# EAGLE library part MAX4233 (library NEWPARTS)
High-Output-Drive, 10MHz, 10V/us, Rail-to_rail I/O Op Amps with Shutdown in SC70
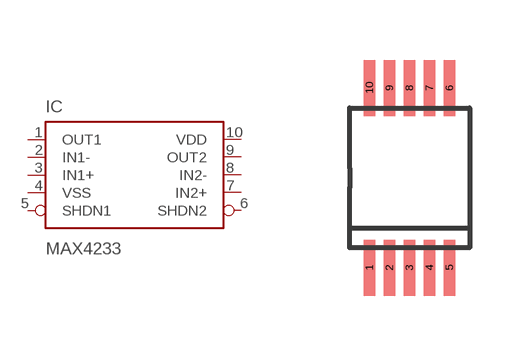
[diagram p4: symbol with the pads of UMAX10; footprint UMAX10]

Designator prefix IC

## MAX4233  [UMAX10]
1  OUT1  in
2  IN1-  in
3  IN1+  pas
4  VSS  pwr
5  SHDN1  in
6  SHDN2  out
7  IN2+  in
8  IN2-  in
9  OUT2  out
10  VDD  pas

## Footprint UMAX10 (pad centres in mm)
micro MAX Package
smd 0.28 x 1.4: 1 -1,-2; 2 -0.5,-2; 3 0,-2; 4 0.5,-2; 5 1,-2; 6 1,2.5; 7 0.5,2.5; 8 0,2.5; 9 -0.5,2.5; 10 -1,2.5